# EAGLE library part MK20D--VFM5 (library blinkinlabs)
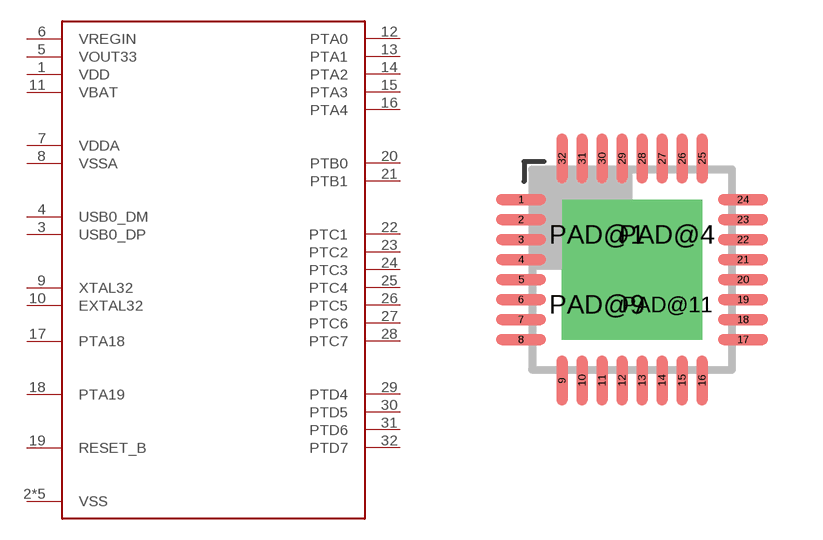
[diagram p22: symbol with the pads of QFN32_5X5_LONGLEADS; footprint QFN32_5X5_LONGLEADS]

Designator prefix -

## MK20D--VFM5  [QFN32_5X5_LONGLEADS]
1  VDD
2  VSS
3  USB0_DP
4  USB0_DM
5  VOUT33
6  VREGIN
7  VDDA
8  VSSA
9  XTAL32
10  EXTAL32
11  VBAT
12  PTA0
13  PTA1
14  PTA2
15  PTA3
16  PTA4
17  PTA18
18  PTA19
19  RESET_B
20  PTB0
21  PTB1
22  PTC1
23  PTC2
24  PTC3
25  PTC4
26  PTC5
27  PTC6
28  PTC7
29  PTD4
30  PTD5
31  PTD6
32  PTD7
PAD@1  VSS
PAD@4  VSS
PAD@9  VSS
PAD@11  VSS

## Footprint QFN32_5X5_LONGLEADS (pad centres in mm)
smd 1.25 x 0.275: 1 -2.775,1.75; 2 -2.775,1.25; 3 -2.775,0.75; 4 -2.775,0.25; 5 -2.775,-0.25; 6 -2.775,-0.75; 7 -2.775,-1.25; 8 -2.775,-1.75; 17 2.775,-1.75; 18 2.775,-1.25; 19 2.775,-0.75; 20 2.775,-0.25; 21 2.775,0.25; 22 2.775,0.75; 23 2.775,1.25; 24 2.775,1.75
smd 0.275 x 1.25: 9 -1.75,-2.775; 10 -1.25,-2.775; 11 -0.75,-2.775; 12 -0.25,-2.775; 13 0.25,-2.775; 14 0.75,-2.775; 15 1.25,-2.775; 16 1.75,-2.775; 25 1.75,2.775; 26 1.25,2.775; 27 0.75,2.775; 28 0.25,2.775; 29 -0.25,2.775; 30 -0.75,2.775; 31 -1.25,2.775; 32 -1.75,2.775
drill 0.35 pad 1.75 square: PAD@1 -0.875,0.875; PAD@4 0.875,0.875; PAD@11 0.875,-0.875
drill 0.35 pad 1.76 square: PAD@9 -0.875,-0.875